# Altium integrated library Switch.IntLib: 16 symbols
Pins are listed as number, name and electrical type; pins without a type are passive.

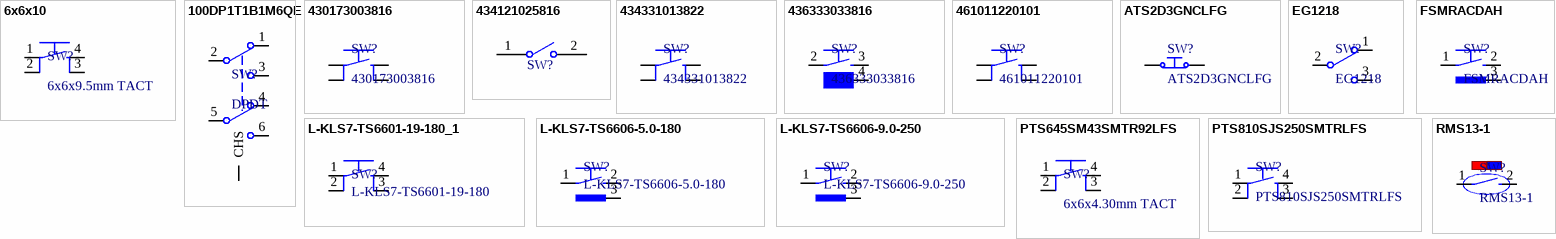
[diagram p0: symbols 6x6x10 to RMS13-1]

## 6x6x10
designator SW?, comment 6x6x9.5mm TACT
SWITCH TACTILE SPST-NO 0.05A 12V  10mm; Manufacturer: ITT C&K; Manufacturer Part Number: PTS645SM43SMTR92LFS; Actuator Material: Nylon,Polyamide; Throw Configuration: SPST; Operating Force: 160gf; Switch Function: Off-Mom; Actuator Type: Standard; Actuator Length: 0.85mm; Purpose Of Usage: BASIC; Supplier 1: Digi-Key; Supplier Part Number 1: CKN9112CT-ND; RoHS: YES; Mount: SMD; Case/Package: SMD/SMT; Color: Black; Min Operating Temperature: -20°C; Max Operating Temperature: 60°C; Orientation: Straight; Category: SWITCH; Sub-Category: TACTILE; Stock ID: ??
footprint 6x6_9.5
pins: 1, 2, 3, 4

## 100DP1T1B1M6QE
designator SW?, comment DPDT
Switch Toggle DPDT 5A 120V; Manufacturer: E-Switch; Manufacturer Part Number: 100DP1T1B1M6QE; Actuator Material: Brass,Chrome; Switch Function: On-On; Actuator Type: Standard Round; Actuator Length: 10.41mm; Purpose Of Usage: BASIC; Supplier 1: Digi-Key; RoHS: YES; Category: SWITCH; Mount: THT; Min Operating Temperature: -30°C; Max Operating Temperature: 85°C; Throw Configuration: DPDT; Supplier Part Number 1: 100DP1T1B1M6QE-ND; Case/Package: THT; Orientation: Right Angle; Sub-Category: TOGGLE; Stock ID: ??
footprint 100DP1T1B1M6QE-ND (DPDT)
pins: 1, 2, 3, 4, 5, 6, 7 CHS

## 430173003816
designator SW?
Tact Switch 3.7X3.7MM Vertical T; Manufacturer: Wurth Electronics; Actuator Length: 0.3 mm; Throw Configuration: SPST; Purpose Of Usage: BASIC; Supplier 1: Digi-Key; Manufacturer Part Number: 430173003816; RoHS: YES; Category: SWITCH; Supplier Part Number 1: 732-13661-1-ND; Case/Package: SMD/SMT; Mount: SMD; Stock ID: ??; Sub-Category: TACTILE; Local Supplier: Würth; Price 10K: 0.085
footprint 430173003816 (Tact Switch, SMD, body 3.7x3.7mm)
pins: A1, A2, B1, B2

## 434121025816
designator SW?  (value not drawn)
Switch Tactile Spst-no 0.05A 12V; Manufacturer: Wurth Elektronik; Actuator Length: 2.5 mm; Purpose Of Usage: BASIC; Throw Configuration: SPST; Manufacturer Part Number: 434121025816; Category: SWITCH; Mount: SMD; RoHS: Yes; Case/Package: SMD/SMT; Local Supplier: Würth; Price 10K: 0.146; Stock ID: ??; Sub-Category: TACTILE; Supplier 1: Digi-Key; Supplier Part Number 1: 732-7045-1-ND
footprint WS-TASV_L6W3.8H2.5_4341x10258x6
pins: 1, 2

## 434331013822
designator SW?
Switch Tactile Spst-no 0.05A 12V; Manufacturer: Wurth Electronics; Actuator Material: Nylon,Polyamide; Operating Force: 220gf; Throw Configuration: SPST; Switch Function: Off-Mom; Purpose Of Usage: BASIC; Supplier 1: Digi-Key; Manufacturer Part Number: 434331013822; RoHS: YES; Category: SWITCH; Mount: SMD; Min Operating Temperature: -40°C; Max Operating Temperature: 85°C; Supplier Part Number 1: 732-10144-1-ND; Case/Package: SMD/SMT; Orientation: Right Angle; Sub-Category: TACTILE; Stock ID: ??; Local Supplier: Würth; Price 10K: 0.146
footprint 434331013822
pins: A1, A2, B1, B2

## 436333033816
designator SW?
Tact Switch; Manufacturer: Wurth Electronics; Operating Force: 160gf; Purpose Of Usage: BASIC; Throw Configuration: SPST; Supplier 1: Digi-Key; Manufacturer Part Number: 436333033816; RoHS: No; Category: SWITCH; Supplier Part Number 1: 732-436333033816TR-ND; Case/Package: SMD/SMT; Local Supplier: Würth; Max Operating Temperature: 85°C; Min Operating Temperature: -40°C; Mount: SMD; Orientation: Right Angle; Stock ID: ??; Sub-Category: TACTILE
footprint 436333033816; pin to pad 3>3+1
pins: 2, 3 1, 4

## 461011220101
designator SW?
Switch Detector Spst-no 1MA 5V; Manufacturer: Wurth Electronics; Throw Configuration: SPST; Switch Function: Off-Mom; Operating Force: 60gf; Purpose Of Usage: BASIC; Supplier 1: Digi-Key; Manufacturer Part Number: 461011220101; RoHS: YES; Category: SWITCH; Min Operating Temperature: -40°C; Max Operating Temperature: 85°C; Supplier Part Number 1: 732-11180-1-ND; Case/Package: SMD/SMT; Mount: SMD; Stock ID: ??; Sub-Category: LIMIT SWITCH; Local Supplier: Würth; Price 10K: 0.57
footprint 461011220101 (4.7x3.8 mm SMD Detector Switch)
pins: A1, A2, B1, B2

## ATS2D3GNCLFG
designator SW?
Tactile Switch SPST-NC Top Actuated Surface Mount; Manufacturer: ITT C&K; Throw Configuration: SPST; Switch Function: On-Mom; Actuator Type: Standard; Operating Force: 204gf; Purpose Of Usage: BASIC; Supplier 1: Digi-Key; Manufacturer Part Number: ATS2D3GNCLFG; RoHS: YES; Category: SWITCH; Min Operating Temperature: -40°C; Max Operating Temperature: 125°C; Supplier Part Number 1: CKN10783TR-ND; Case/Package: SMD/SMT; Mount: SMD; Stock ID: ??; Sub-Category: TACTILE; Local Supplier: Future; Price 10K: 0.43
footprint ATS2D3G NC LFG (4.7x3.8 mm SMD Detector Switch)
pins: 1, 2

## EG1218
designator SW?
Switch Slide N.O./N.C. SPDT Top Slide 0.2A 30VDC PC Pins Thru-Hole; Manufacturer: E-Switch; Operating Force: 250gf; Switch Function: On-On; Actuator Type: Standard; Actuator Length: 2mm; Purpose Of Usage: BASIC; Supplier 1: Digi-Key; Manufacturer Part Number: EG1218; RoHS: YES; Category: SWITCH; Mount: THT; Min Operating Temperature: -20°C; Max Operating Temperature: 70°C; Throw Configuration: SPDT; Supplier Part Number 1: EG1903-ND; Case/Package: THT; Sub-Category: SLIDE; Stock ID: ??
footprint ESWI-EG1218_V (THD, 3-Leads, Body 11.6x4mm, Pitch 2.5mm)
pins: 1, 2, 3

## FSMRACDAH
designator SW?
Tactile Switches 6MM HGH TMP W/SQ ACT R/A TACT SWITCH; Manufacturer: TE Connectivity; Throw Configuration: SPST; Operating Force: 1.6N; Switch Function: Off-Mom; Purpose Of Usage: BASIC; Supplier 1: Digi-Key; Manufacturer Part Number: FSMRACDAH; RoHS: YES; Mount: THT; Color: Blue; Min Operating Temperature: -35°C; Max Operating Temperature: 85°C; Supplier Part Number 1: 450-1648-ND; Category: SWITCH; Case/Package: THT; Sub-Category: TACTILE; Stock ID: ??
footprint FSMRACDAH
pins: 1, 2, 3

## L-KLS7-TS6601-19-180_1
designator SW?, comment L-KLS7-TS6601-19-180
6X6X19mm; Manufacturer: KLS ELECTRONIC; Manufacturer Part Number: L-KLS7-TS6601-19-180_1; Switch Function: Off-Mom; Throw Configuration: SPST; Purpose Of Usage: BASIC; Category: SWITCH; Case/Package: THT; Mount: THT; RoHS: YES; Sub-Category: TACTILE; Supplier 1: Özdisan; Supplier Part Number 1: L-KLS7-TS6601-19-180_1; Stock ID: ??
footprint 6x6x19mm
pins: 1, 2, 3, 4

## L-KLS7-TS6606-5.0-180
designator SW?
Right angle 6X6X5mm; Manufacturer: KLS ELECTRONIC; Switch Function: Off-Mom; Throw Configuration: SPST; Purpose Of Usage: BASIC; Category: SWITCH; Supplier 1: Özdisan; Supplier Part Number 1: L-KLS7-TS6606-5.0-180; Sub-Category: TACTILE; Manufacturer Part Number: L-KLS7-TS6606-5.0-180; Case/Package: THT; Mount: THT; RoHS: YES; Stock ID: ??
footprint Right angle 9mm
pins: 1, 2, 3

## L-KLS7-TS6606-9.0-250
designator SW?
Right angle 6X6X9mm; Manufacturer: KLS ELECTRONIC; Switch Function: Off-Mom; Throw Configuration: SPST; Purpose Of Usage: BASIC; Category: SWITCH; Case/Package: THT; Manufacturer Part Number: L-KLS7-TS6606-9.0-250; Mount: THT; Orientation: Right Angle; RoHS: YES; Sub-Category: TACTILE; Supplier 1: Özdisan; Supplier Part Number 1: L-KLS7-TS6606-9.0-250; Stock ID: ??
footprint Right angle 9mm
pins: 1, 2, 3

## PTS645SM43SMTR92LFS
designator SW?, comment 6x6x4.30mm TACT
SWITCH TACTILE SPST-NO 0.05A 12V  4.30mm; Manufacturer: ITT C&K; Manufacturer Part Number: PTS645SM43SMTR92LFS; Actuator Material: Nylon,Polyamide; Throw Configuration: SPST; Operating Force: 160gf; Switch Function: Off-Mom; Actuator Type: Standard; Actuator Length: 0.85mm; Purpose Of Usage: BASIC; Supplier 1: Digi-Key; Supplier Part Number 1: CKN9112CT-ND; RoHS: YES; Mount: SMD; Case/Package: SMD/SMT; Color: Black; Min Operating Temperature: -20°C; Max Operating Temperature: 60°C; Orientation: Straight; Category: SWITCH; Sub-Category: TACTILE; Stock ID: ??
footprint 6x6_Smd_Tach_Switch
pins: 1, 2, 3, 4

## PTS810SJS250SMTRLFS
designator SW?
Switch Tactile N.O. SPST Round Button J-Bend 0.05A 16VDC 150000Cycle 5.88N SMD T/R; Manufacturer: ITT C&K; Operating Force: 600gf; Switch Function: Off-Mom; Actuator Type: Standard; Actuator Length: 2.5mm; Actuator Material: Nylon,Polyamide; Purpose Of Usage: BASIC; Manufacturer Part Number: PTS810SJS250SMTRLFS; RoHS: YES; Color: Silver; Min Operating Temperature: -40°C; Max Operating Temperature: 85°C; Throw Configuration: SPST; Case/Package: SMD/SMT; Category: SWITCH; Local Supplier: OZDISAN; Mount: SMD; Orientation: Straight; Price 10K: 0.22; Stock ID: ??; Sub-Category: TACTILE; Supplier 1: Digi-Key; Supplier Part Number 1: CKN10878CT-ND
footprint PTS810 SJS 250 SMTR LFS (Tact Switch, SMD, body 4.2x3.2mm)
pins: 1, 2, 3, 4

## RMS13-1
designator SW?
SWITCH REED SPST-NO 10W 10-25AT SMT; Manufacturer: RAPIDTEK; Switch Function: Off-Mom; Throw Configuration: SPST; Purpose Of Usage: BASIC; Category: SWITCH; Manufacturer Part Number: RMS13-1; Supplier 1: Özdisan; Supplier Part Number 1: RMS13-1; Case/Package: SMD/SMT; Mount: SMD; Orientation: Straight; RoHS: YES; Sub-Category: REED; Stock ID: ??
footprint RMS13-1
pins: 1, 2